# EAGLE library part HMC1052L-TR (library Hocki_library )
Magnetoresistive Sensor X, Y Axis 16-LCC DigiKey <https://www.digikey.com/en/products/detail/honeywell-aerospace/HMC1052L-TR/2512744>
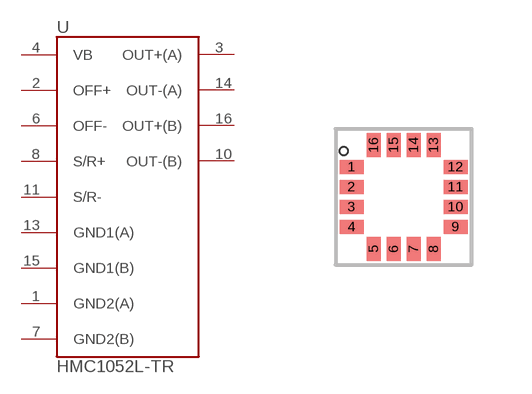
[diagram p1: symbol with the pads of 16-LCC; footprint 16-LCC]

Designator prefix U

## HMC1052L-TR (DKPN: 342-1042-2-ND)  [16-LCC]
1  GND2(A)  pas
2  OFF+  pas
3  OUT+(A)  pas
4  VB  pas
6  OFF-  pas
7  GND2(B)  pas
8  S/R+  pas
10  OUT-(B)  pas
11  S/R-  pas
13  GND1(A)  pas
14  OUT-(A)  pas
15  GND1(B)  pas
16  OUT+(B)  pas

## Footprint 16-LCC (pad centres in mm)
smd 0.6 x 0.35: 1 -1.3,0.75; 2 -1.3,0.25; 3 -1.3,-0.25; 4 -1.3,-0.75; 9 1.3,-0.75; 10 1.3,-0.25; 11 1.3,0.25; 12 1.3,0.75
smd 0.35 x 0.6: 5 -0.75,-1.3; 6 -0.25,-1.3; 7 0.25,-1.3; 8 0.75,-1.3; 13 0.75,1.3; 14 0.25,1.3; 15 -0.25,1.3; 16 -0.75,1.3